# Altium schematic symbol library ATMEGA644P-20PU.SchLib: 1 symbol
Pins are listed as number, name and electrical type; pins without a type are passive.

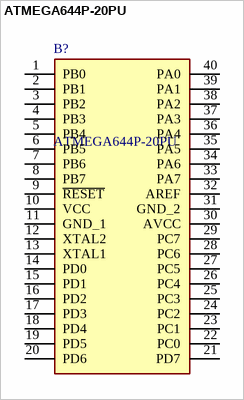
[diagram p0: symbol ATMEGA644P-20PU]

## ATMEGA644P-20PU
designator B?
8-bit MCU; Manufacturer_Name: Microchip; Geometry.Height: 4.826mm; Mouser Part Number: 556-ATMEGA644P-20PU; Mouser Price/Stock: https://www.mouser.co.uk/ProductDetail/Microchip-Technology-Atmel/ATMEGA644P-20PU?qs=b1J4i6otjZszsgv9nk2ACg%3D%3D; Manufacturer_Part_Number: ATMEGA644P-20PU; Datasheet Link: *
footprint DIP1556W56P254L5232H483Q40N
pins: 1 PB0, 2 PB1, 3 PB2, 4 PB3, 5 PB4, 6 PB5, 7 PB6, 8 PB7, 9 ~{RESET}, 10 VCC, 11 GND_1, 12 XTAL2, 13 XTAL1, 14 PD0, 15 PD1, 16 PD2, 17 PD3, 18 PD4, 19 PD5, 20 PD6, 21 PD7, 22 PC0, 23 PC1, 24 PC2, 25 PC3, 26 PC4, 27 PC5, 28 PC6, 29 PC7, 30 AVCC, 31 GND_2, 32 AREF, 33 PA7, 34 PA6, 35 PA5, 36 PA4, 37 PA3, 38 PA2, 39 PA1, 40 PA0